# Altium schematic symbol library SB340S.Schlib: 1 symbol
Pins are listed as number, name and electrical type; pins without a type are passive.

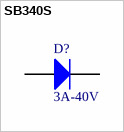
[diagram p0: symbol SB340S]

## SB340S
designator D?, comment 3A-40V
Schoktty Diode
pins: 1 A, 2 K